# EAGLE library part POW0268 (library lbm)
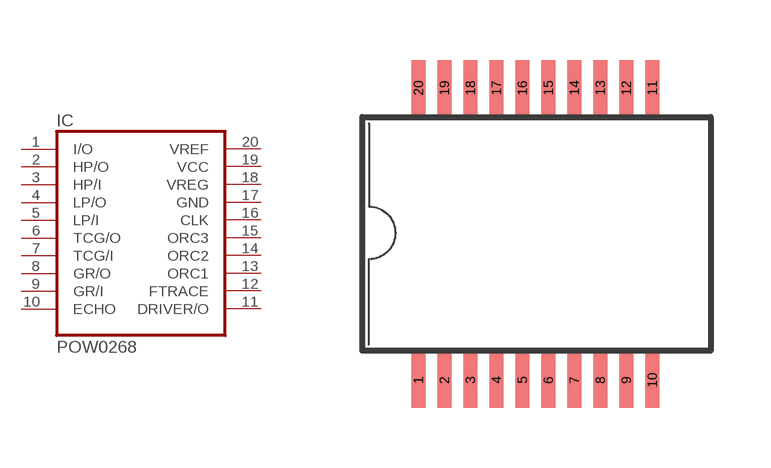
[diagram p47: symbol with the pads of SSOP20BU; footprint SSOP20BU]

Designator prefix IC

## POW0268  [SSOP20BU]
1  I/O
2  HP/O
3  HP/I
4  LP/O
5  LP/I
6  TCG/O
7  TCG/I
8  GR/O
9  GR/I
10  ECHO
11  DRIVER/O
12  FTRACE
13  ORC1
14  ORC2
15  ORC3
16  CLK
17  GND
18  VREG
19  VCC
20  VREF

## Footprint SSOP20BU (pad centres in mm)
Small Shrink Outline Package
smd 0.348 x 1.397: 1 -2.493,-3.656; 2 -1.843,-3.656; 3 -1.193,-3.656; 4 -0.543,-3.656; 5 0.107,-3.656; 6 0.757,-3.656; 7 1.407,-3.656; 8 2.057,-3.656; 9 2.707,-3.656; 10 3.357,-3.656; 11 3.357,3.656; 12 2.707,3.656; 13 2.057,3.656; 14 1.407,3.656; 15 0.757,3.656; 16 0.107,3.656; 17 -0.543,3.656; 18 -1.193,3.656; 19 -1.843,3.656; 20 -2.493,3.656